# EAGLE library part 1611-ATSAMD21E15B (library ORBiT-IC-PlC)
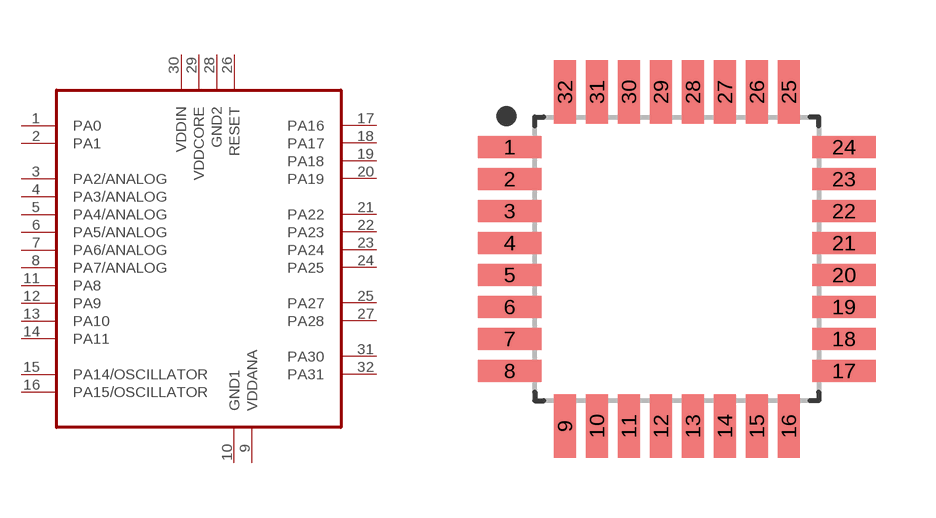
[diagram p2: symbol with the pads of 32-TQFP; footprint 32-TQFP]

Designator prefix -

## 1611-ATSAMD21E15B  [32-TQFP]
1  PA0
2  PA1
3  PA2/ANALOG
4  PA3/ANALOG
5  PA4/ANALOG
6  PA5/ANALOG
7  PA6/ANALOG
8  PA7/ANALOG
9  VDDANA
10  GND1
11  PA8
12  PA9
13  PA10
14  PA11
15  PA14/OSCILLATOR
16  PA15/OSCILLATOR
17  PA16
18  PA17
19  PA18
20  PA19
21  PA22
22  PA23
23  PA24
24  PA25
25  PA27
26  RESET
27  PA28
28  GND2
29  VDDCORE
30  VDDIN
31  PA30
32  PA31

## Footprint 32-TQFP (pad centres in mm)
32-QFP, 0.80 mm pitch, 9.00 mm span, 7.00 X 7.00 X 1.20 mm body 32-pin QFP package with 0.80 mm pitch, 9.00 mm lead span1 X 9.00 mm lead span2 with body size 7.00 X 7.00 X 1.20 mm
smd 1.6 x 0.547: 1 -4.181,2.8; 2 -4.181,2; 3 -4.181,1.2; 4 -4.181,0.4; 5 -4.181,-0.4; 6 -4.181,-1.2; 7 -4.181,-2; 8 -4.181,-2.8; 17 4.181,-2.8; 18 4.181,-2; 19 4.181,-1.2; 20 4.181,-0.4; 21 4.181,0.4; 22 4.181,1.2; 23 4.181,2; 24 4.181,2.8
smd 0.547 x 1.6: 9 -2.8,-4.181; 10 -2,-4.181; 11 -1.2,-4.181; 12 -0.4,-4.181; 13 0.4,-4.181; 14 1.2,-4.181; 15 2,-4.181; 16 2.8,-4.181; 25 2.8,4.181; 26 2,4.181; 27 1.2,4.181; 28 0.4,4.181; 29 -0.4,4.181; 30 -1.2,4.181; 31 -2,4.181; 32 -2.8,4.181